# EAGLE library part HXR040ST (library con-thomas-betts)
THOMAS&BETTS
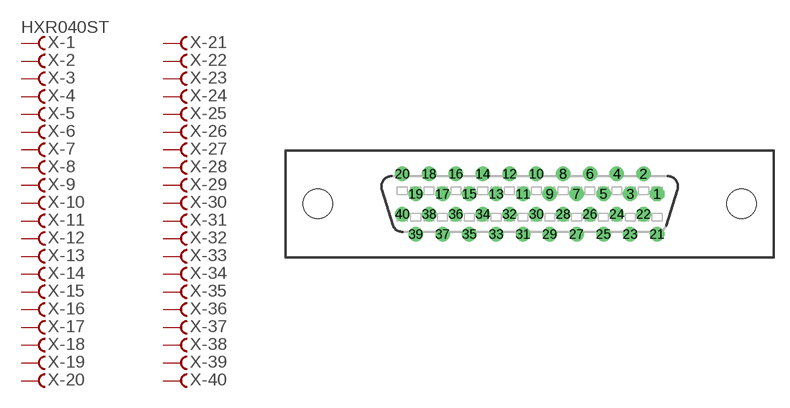
[diagram p14: symbol with the pads of HXR040ST; footprint HXR040ST]

Designator prefix X; gates -1=FV -2=F -3=F -4=F -5=F -6=F -7=F -8=F -9=F -10=F -11=F -12=F -13=F -14=F -15=F -16=F -17=F -18=F -19=F -20=F -21=F -22=F -23=F -24=F -25=F -26=F -27=F -28=F -29=F -30=F -31=F -32=F -33=F -34=F -35=F -36=F -37=F -38=F -39=F -40=F

## HXR040ST (OC_FARNELL: unknown; OC_NEWARK: unknown)  [HXR040ST]
1  -1:F  pas
2  -2:F  pas
3  -3:F  pas
4  -4:F  pas
5  -5:F  pas
6  -6:F  pas
7  -7:F  pas
8  -8:F  pas
9  -9:F  pas
10  -10:F  pas
11  -11:F  pas
12  -12:F  pas
13  -13:F  pas
14  -14:F  pas
15  -15:F  pas
16  -16:F  pas
17  -17:F  pas
18  -18:F  pas
19  -19:F  pas
20  -20:F  pas
21  -21:F  pas
22  -22:F  pas
23  -23:F  pas
24  -24:F  pas
25  -25:F  pas
26  -26:F  pas
27  -27:F  pas
28  -28:F  pas
29  -29:F  pas
30  -30:F  pas
31  -31:F  pas
32  -32:F  pas
33  -33:F  pas
34  -34:F  pas
35  -35:F  pas
36  -36:F  pas
37  -37:F  pas
38  -38:F  pas
39  -39:F  pas
40  -40:F  pas

## Footprint HXR040ST (pad centres in mm)
THOMAS&BETTS HFR040ST29xx, HHR040ST29xx
drill 0.864 octagon: 1 12.065,0.953
drill 0.864: 2 10.795,2.857; 3 9.525,0.953; 4 8.255,2.857; 5 6.985,0.953; 6 5.715,2.857; 7 4.445,0.953; 8 3.175,2.857; 9 1.905,0.953; 10 0.635,2.857; 11 -0.635,0.953; 12 -1.905,2.857; 13 -3.175,0.953; 14 -4.445,2.857; 15 -5.715,0.953; 16 -6.985,2.857; 17 -8.255,0.953; 18 -9.525,2.857; 19 -10.795,0.953; 20 -12.065,2.857; 21 12.065,-2.857; 22 10.795,-0.953; 23 9.525,-2.857; 24 8.255,-0.953; 25 6.985,-2.857; 26 5.715,-0.953; 27 4.445,-2.857; 28 3.175,-0.953; 29 1.905,-2.857; 30 0.635,-0.953; 31 -0.635,-2.857; 32 -1.905,-0.953; 33 -3.175,-2.857; 34 -4.445,-0.953; 35 -5.715,-2.857; 36 -6.985,-0.953; 37 -8.255,-2.857; 38 -9.525,-0.953; 39 -10.795,-2.857; 40 -12.065,-0.953
hole 2.769 at 20.066,0.013
hole 2.769 at -20.066,0.013